# EAGLE library part N2514-6V0C-RB-WD (library 3M_By_element14_Batch_1)
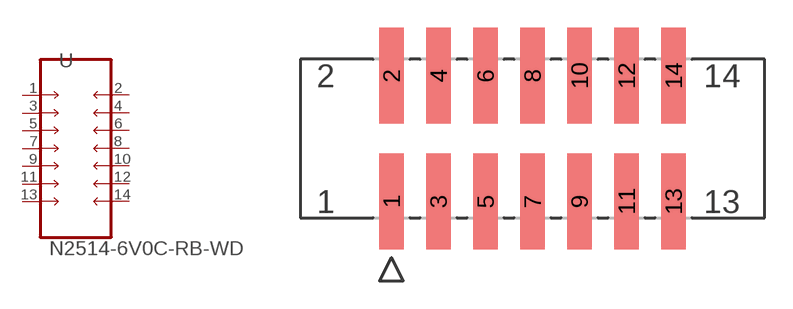
[diagram p131: symbol with the pads of 3M_N2514-6V0C-RB-WD; footprint 3M_N2514-6V0C-RB-WD]

Designator prefix -

## N2514-6V0C-RB-WD (DIGIKEY: MSH14KCT-ND)  [3M_N2514-6V0C-RB-WD]
1  1  pas
2  2  pas
3  3  pas
4  4  pas
5  5  pas
6  6  pas
7  7  pas
8  8  pas
9  9  pas
10  10  pas
11  11  pas
12  12  pas
13  13  pas
14  14  pas

## Footprint 3M_N2514-6V0C-RB-WD (pad centres in mm)
smd 1.321 x 5.182: 1 -7.62,-3.404; 2 -7.62,3.404; 3 -5.08,-3.404; 4 -5.08,3.404; 5 -2.54,-3.404; 6 -2.54,3.404; 7 0,-3.404; 8 0,3.404; 9 2.54,-3.404; 10 2.54,3.404; 11 5.08,-3.404; 12 5.08,3.404; 13 7.62,-3.404; 14 7.62,3.404